# Altium footprint library TL061ACD.PcbLib: 1 footprints
Each footprint in its own frame and in the unit in brackets; x right, y up, seen from the top. Pads: shape width x height; smd on the part's side, far side on the other; paste and mask are expansions set on the pad; w line width, h text height; cw(c..) or ccw(c..) is an arc to the next point about the centre after c.
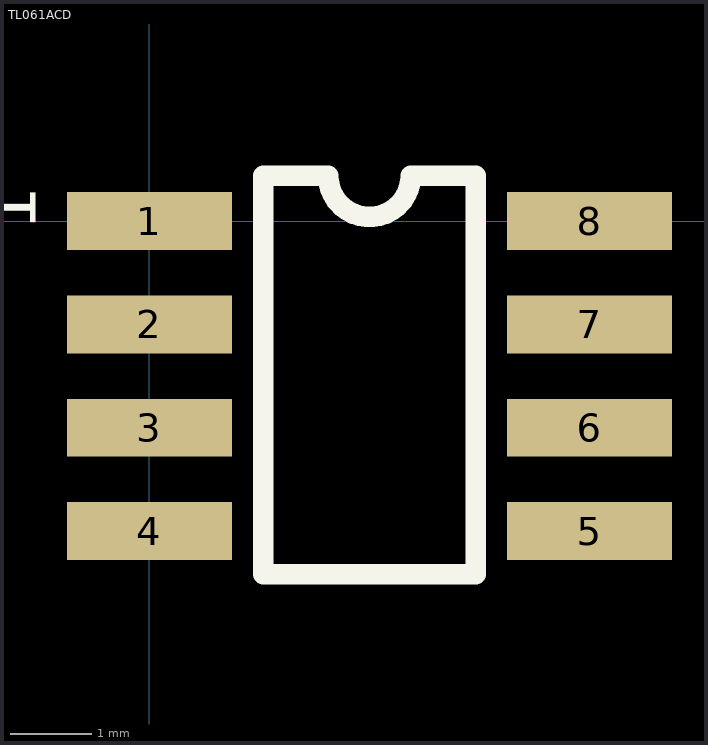
[diagram p0: the footprint, top view; thin cyan lines are the x and y axes]

## TL061ACD [mil]
pads (8):
  rect 80x28 smd: 1(0,0) 2(0,-50) 3(0,-100) 4(0,-150) 5(213,-150) 6(213,-100) 7(213,-50) 8(213,0)
Top Overlay:
  lines w10: 85,22 55,22 55,-171 158,-171 158,22 128,22 ; 86.5,22 ccw(c106.5,22) 126.5,22
  text "1" at -55,-5 h25
3D body "User Library-SOIC-8-150.STEP": height 69.53, standoff 0.63, extent -17.05,-173.43 227.05,23.43